# Altium footprint library Conn_Wurth_629105150521_eec_MFG.PcbLib: 1 footprints
Each footprint in its own frame and in the unit in brackets; x right, y up, seen from the top. Pads: shape width x height; smd on the part's side, far side on the other; paste and mask are expansions set on the pad; w line width, h text height; cw(c..) or ccw(c..) is an arc to the next point about the centre after c.
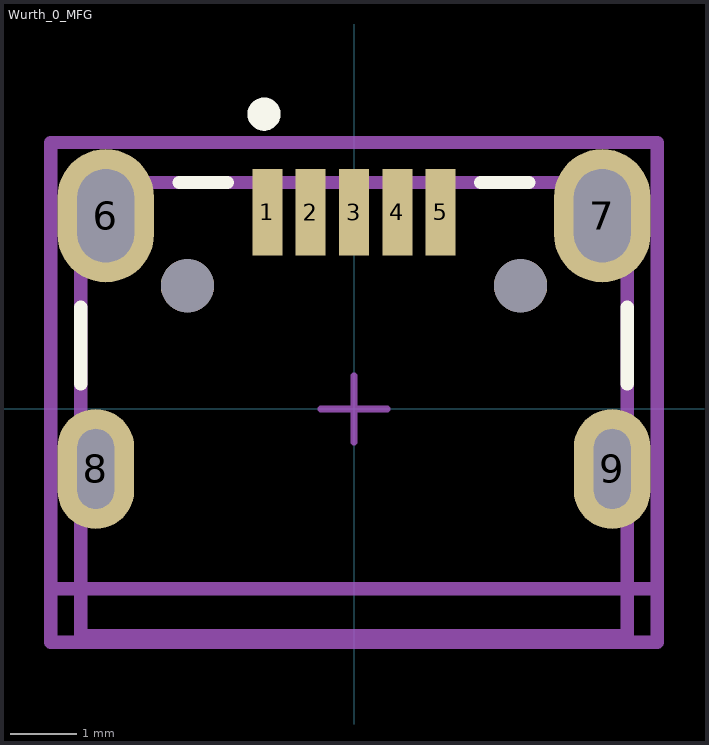
[diagram p0: the footprint, top view; thin cyan lines are the x and y axes]

## Wurth_0_MFG [mm]
pads (11):
  rect 0.45x1.3 smd paste+0 mask+0: 1(-1.3,2.95) 2(-0.65,2.95) 3(0,2.95) 4(0.65,2.95) 5(1.3,2.95)
  rrect100% 1.45x2 hole 1.4 slot 0.85 at 0 deg paste-1000 mask+0: 6(-3.725,2.9) 7(3.725,2.9)
  rrect100% 1.15x1.8 hole 1.2 slot 0.55 at 0 deg paste-1000 mask+0: 8(-3.875,-0.9) 9(3.875,-0.9)
  round 0.8 hole 0.8 unplated paste-1000 mask+0: ""(-2.5,1.85) ""(2.5,1.85)
Top Overlay:
  circle w0.25: c-1.35,4.425 r0.125
  lines w0.2: -4.1,0.375 -4.1,1.525 ; -2.625,3.4 -1.9,3.4 ; 1.9,3.4 2.625,3.4 ; 4.1,0.375 4.1,1.525
Mechanical 10:
  lines w0.2: -4.55,-3.5 4.55,-3.5 4.55,4 -4.55,4 -4.55,-3.5
  text ".Designator" at 0,0.438 h1
Mechanical 12:
  lines w0.2: -4.55,-2.7 4.55,-2.7 ; -4.1,-3.4 4.1,-3.4 4.1,3.4 -4.1,3.4 -4.1,-3.4
Mechanical 15:
  lines w0.1: -0.5,0 0.5,0 ; 0,-0.5 0,0.5
  lines w0.2: -4.55,-3.5 4.55,-3.5 4.55,4 -4.55,4 -4.55,-3.5
3D body "Conn_Wurth_629105150521_eec.STEP": height 0.25, standoff 0, extent -4.55,-3.5 4.55,4